# Altium footprint library pizdecс.PcbLib: 2 footprints
Each footprint in its own frame and in the unit in brackets; x right, y up, seen from the top. Pads: shape width x height; smd on the part's side, far side on the other; paste and mask are expansions set on the pad; w line width, h text height; cw(c..) or ccw(c..) is an arc to the next point about the centre after c.
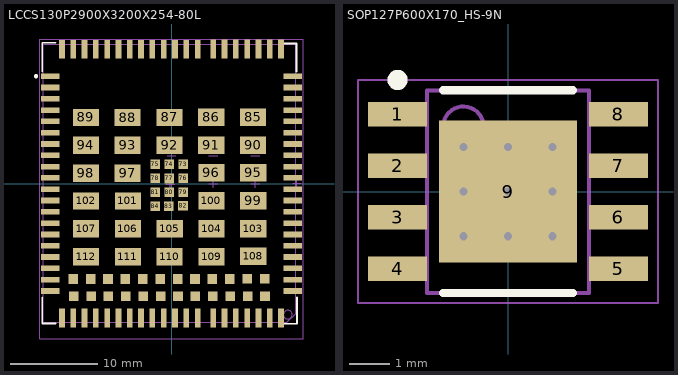
[diagram p0: the footprints below, top view; thin cyan lines are the x and y axes]

## LCCS130P2900X3200X254-80L [mm] "LCC, 80-Pins, Body 29,00x32,00mmx2,54mm, Pitch 1,30mm, IPC High Density"
height 2.54
pads (144):
  rect 0.65x2.15 smd: 1(12.6,-15.45) 2(11.3,-15.45) 3(10,-15.45) 4(8.7,-15.45) 5(7.4,-15.45) 6(6.1,-15.45) 7(4.8,-15.45) 8(0.4,-15.45) 9(-0.9,-15.45) 10(-2.2,-15.45) 11(-3.5,-15.45) 12(-4.8,-15.45) 13(-6.1,-15.45) 14(-7.4,-15.45) 15(-8.7,-15.45) 16(-10,-15.45) 17(-11.3,-15.45) 18(-12.6,-15.45) 37(-12.6,15.45) 38(-11.3,15.45) 39(-10,15.45) 40(-8.7,15.45) 41(-7.4,15.45) 42(-6.1,15.45) 43(-4.8,15.45) 44(-3.5,15.45) 45(-2.2,15.45) 46(-0.9,15.45) 47(0.4,15.45) 48(4.8,15.475) 49(6.1,15.475) 50(7.4,15.475) 51(8.7,15.475) 52(10,15.475) 53(11.3,15.475) 54(12.6,15.475) 141(3,-15.45) 142(1.7,-15.45) 143(1.7,15.45) 144(3,15.45)
  rect 2.15x0.65 smd: 19(-13.95,-9.75) 20(-13.95,-8.45) 21(-13.95,-7.15) 22(-13.95,-5.85) 23(-13.95,-4.55) 24(-13.95,-3.25) 25(-13.95,-1.95) 26(-13.95,-0.65) 27(-13.95,0.65) 28(-13.95,1.95) 29(-13.95,3.25) 30(-13.95,4.55) 31(-13.95,5.85) 32(-13.95,7.15) 33(-13.95,8.45) 34(-13.95,9.75) 35(-13.95,11.05) 36(-13.95,12.35) 55(13.95,12.35) 56(13.95,11.05) 57(13.95,9.75) 58(13.95,8.45) 59(13.95,7.15) 60(13.95,5.85) 61(13.95,4.55) 62(13.95,3.25) 63(13.95,1.95) 64(13.95,0.65) 65(13.95,-0.65) 66(13.95,-1.95) 67(13.95,-3.25) 68(13.95,-4.55) 69(13.95,-5.85) 70(13.95,-7.15) 71(13.95,-8.45) 72(13.95,-9.75) 113(13.95,-11.05) 114(13.95,-12.35) 115(-13.95,-11.05) 116(-13.95,-12.35)
  rect 1.1x1.1 smd: 73(1.375,2.225) 74(-0.24,2.208) 75(-1.85,2.2) 76(1.35,0.625) 77(-0.265,0.584) 78(-1.861,0.601) 79(1.35,-0.975) 80(-0.265,-0.992) 81(-1.875,-1) 82(1.325,-2.575) 83(-0.3,-2.6) 84(-1.886,-2.599) 117(10.7,-10.95) 118(8.7,-10.95) 119(6.7,-10.975) 121(2.7,-10.975) 122(0.7,-10.975) 123(-1.3,-10.975) 124(-3.3,-10.975) 125(-5.3,-10.975) 126(-7.3,-10.975) 127(-9.3,-10.975) 128(-11.3,-10.975) 129(10.75,-12.95) 130(8.75,-12.95) 131(6.75,-12.975) 132(4.75,-12.975) 133(2.75,-12.975) 134(0.75,-12.975) 135(-1.25,-12.975) 136(-3.25,-12.975) 137(-5.25,-12.975) 138(-7.25,-12.975) 139(-9.25,-12.975) 140(-11.25,-12.975) 1120(4.7,-10.975)
  rect 3x2 smd: 85(9.38,7.622) 86(4.575,7.625) 87(-0.225,7.6) 88(-5.045,7.597) 89(-9.85,7.6) 90(9.38,4.422) 91(4.575,4.425) 92(-0.225,4.4) 93(-5.045,4.397) 94(-9.85,4.4) 95(9.405,1.222) 96(4.6,1.225) 97(-5.05,1.2) 98(-9.85,1.2) 99(9.405,-1.978) 100(4.6,-1.975) 101(-5.02,-2.003) 102(-9.825,-2) 103(9.405,-5.178) 104(4.605,-5.203) 105(-0.2,-5.2) 106(-5.02,-5.203) 107(-9.825,-5.2) 108(9.405,-8.378) 109(4.605,-8.403) 110(-0.22,-8.403) 111(-5.02,-8.403) 112(-9.825,-8.4)
Top Overlay:
  circle w0.25: c-15.575,12.35 r0.125
  lines w0.2: -14.875,-13.075 -14.875,-16.1 -13.3,-16.1 ; -14.875,12.9 -14.875,15.675 -14.875,16.2 -13.35,16.2 ; 12.875,16.1 14.375,16.1 14.375,12.9 ; 12.9,-16.125 14.425,-16.125 14.425,-13.1
Mechanical 13:
  circle w0.1: c13.375,-15.075 r0.5
  lines w0.1: -14.725,-15.975 -14.725,16.025 14.275,16.025 14.275,-14.975 13.275,-15.975 -14.725,-15.975
Mechanical 15:
  lines w0.05: -15.125,-17.875 -15.125,16.625 15.125,16.625 15.125,-17.875 -15.125,-17.875
  lines w0.1: -0.65,-0.1 0.35,-0.1 ; -0.5,3.2 0.5,3.2 ; -0.15,-0.6 -0.15,0.4 ; 4.3,0 5.3,0 ; 4.3,3.2 5.3,3.2 ; 4.8,-0.5 4.8,0.5 ; 9.125,0 10.125,0 ; 9.125,3.2 10.125,3.2 ; 9.625,-0.5 9.625,0.5 ; 13.925,0.025 14.925,0.025 ; 14.425,-0.475 14.425,0.525
3D body "LCCS130P2900X3200X254-80L.step": height 2.54, standoff 0, extent -14.725,-15.975 14.275,16.025

## SOP127P600X170_HS-9N [mm] "SOP, 8-Leads, Body 4,90x3,90mm, Pitch 1,27mm, Thermal Pad 3,50x3,40mm, IPC Medium Density"
height 1.7
pads (9):
  rect 1.45x0.6 smd: 1(-2.725,1.905) 2(-2.725,0.635) 3(-2.725,-0.635) 4(-2.725,-1.905) 5(2.725,-1.905) 6(2.725,-0.635) 7(2.725,0.635) 8(2.725,1.905)
  rect 3.4x3.5 smd: 9(0,0)
via 1.1,-1.1 diameter 0.5 hole 0.2
via 0,-1.1 diameter 0.5 hole 0.2
via -1.1,-1.1 diameter 0.5 hole 0.2
via 1.1,0 diameter 0.5 hole 0.2
via 0,0 diameter 0.5 hole 0.2
via -1.1,0 diameter 0.5 hole 0.2
via 1.1,1.1 diameter 0.5 hole 0.2
via 0,1.1 diameter 0.5 hole 0.2
via -1.1,1.1 diameter 0.5 hole 0.2
Top Overlay:
  circle w0.25: c-2.725,2.755 r0.125
  lines w0.2: -1.6,-2.5 1.6,-2.5 ; -1.6,2.5 1.6,2.5
Mechanical 13:
  circle w0.1: c-1.1,1.6 r0.5
  lines w0.1: -2,-2.5 2,-2.5 2,2.5 -2,2.5 -2,-2.5
Mechanical 15:
  lines w0.05: -3.7,-2.75 3.7,-2.75 3.7,2.75 -3.7,2.75 -3.7,-2.75
  lines w0.1: -0.5,0 0.5,0 ; 0,-0.5 0,0.5
3D body "SOP127P600X170_HS-9N.step": height 1.7, standoff 0, extent -3,-2.5 3,2.5